# Altium schematic symbol library 凯华热插拔-SK6812-3528反贴.SchLib: 1 symbol
Pins are listed as number, name and electrical type; pins without a type are passive.

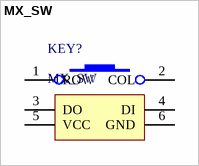
[diagram p0: symbol MX_SW]

## MX_SW
designator KEY?
footprint Kailh Socket MX_Without_Keycap (无键帽)
footprint MX_Backspace_2U (2U 长度按键)
footprint MX_CapsLock_1.75U (1.75U 长度按键)
footprint MX_Ctrl_Win_Alt_1.25U (1.25U 长度按键)
footprint MX_LeftShift_Enter_2.25U (2.25U 长度按键)
footprint MX_Normal_1U (1U 长度按键)
footprint MX_RightShift_2.75U (2.75U 长度按键)
footprint MX_Space_6.25U (6.25U 长度按键)
footprint MX_Tab_1.5U (1.5U 长度按键)
pins: 1 ROW, 2 COL, 3 DO, 4 DI, 5 VCC, 6 GND